# Altium footprint library Seeed-OPL-ic.PCBLIB: 95 footprints (part 3 of 6)
Each footprint in its own frame and in the unit in brackets; x right, y up, seen from the top. Pads: shape width x height; smd on the part's side, far side on the other; paste and mask are expansions set on the pad; w line width, h text height; cw(c..) or ccw(c..) is an arc to the next point about the centre after c.
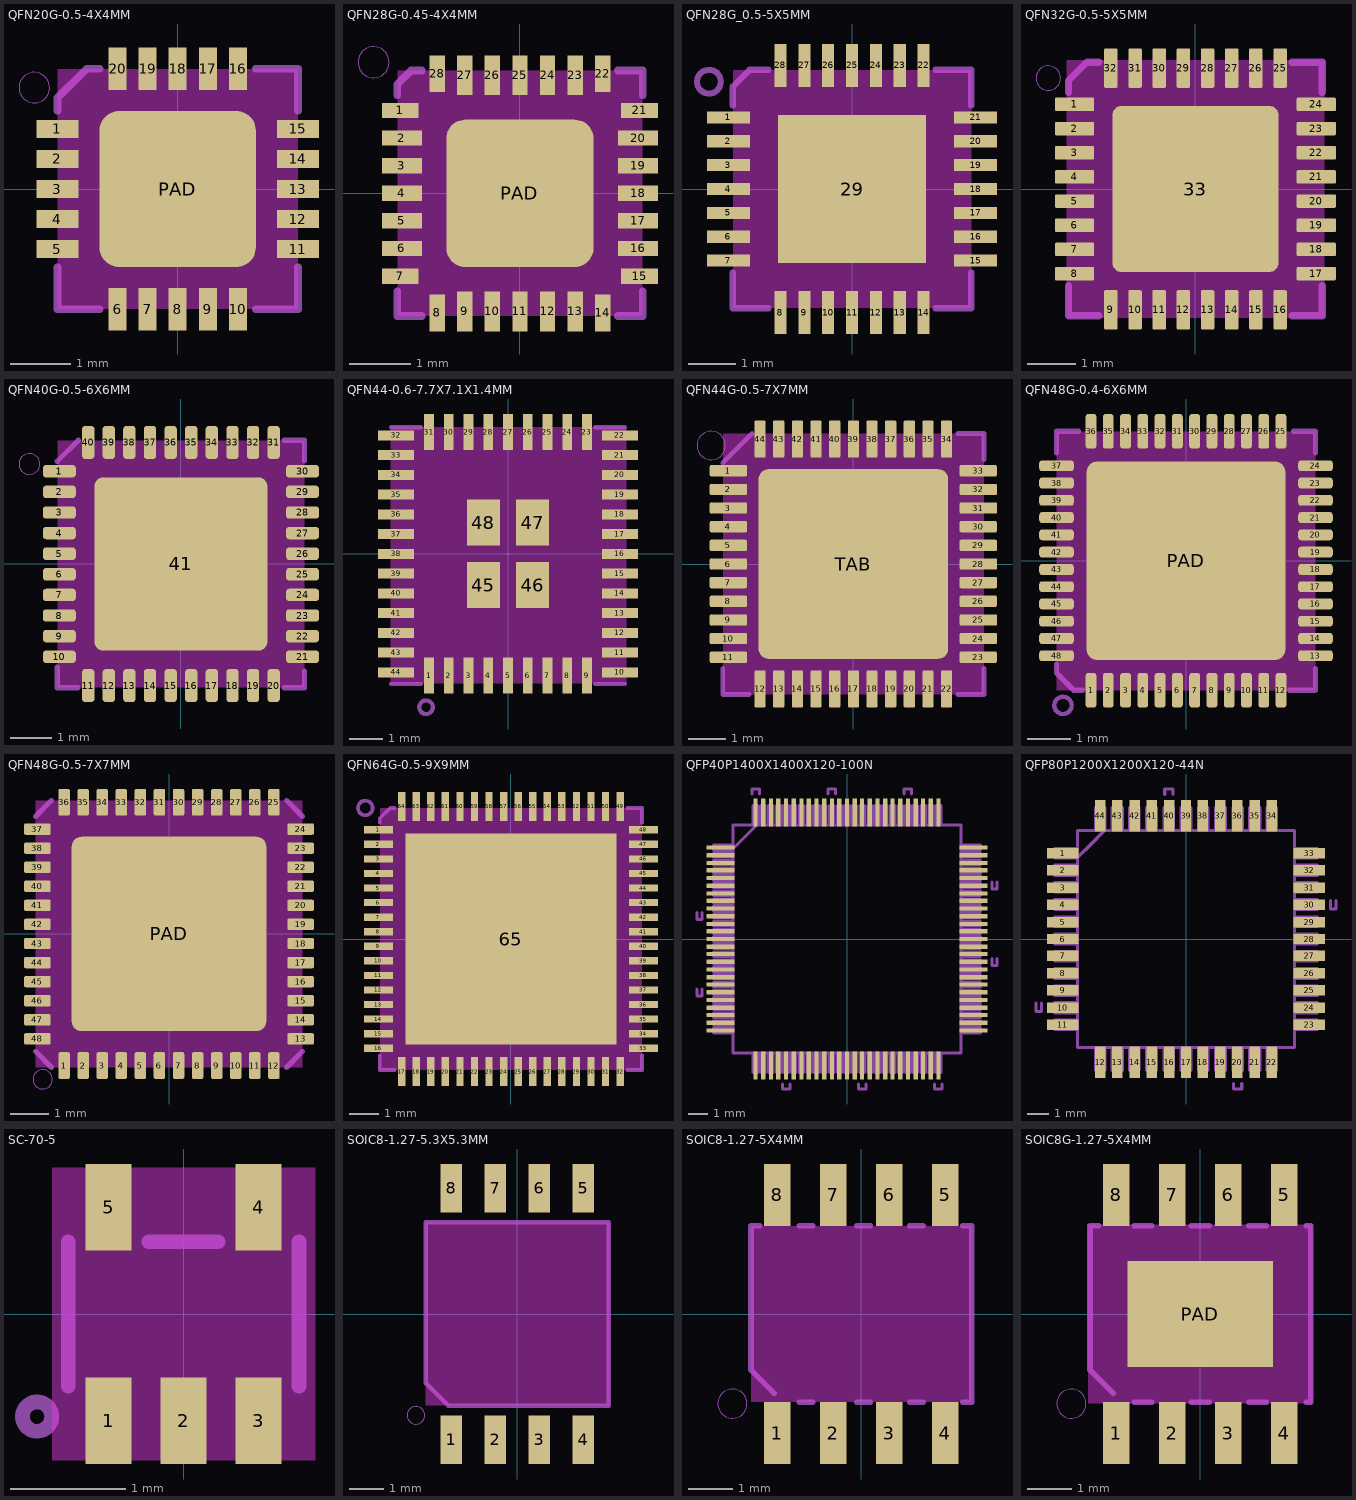
[diagram p2: the footprints below, top view; thin cyan lines are the x and y axes]

## QFN20G-0.5-4X4MM [mm]
pads (21):
  rect 0.7x0.3 smd: 1(-2,1) 2(-2,0.5) 3(-2,0) 4(-2,-0.5) 5(-2,-1) 11(2,-1) 12(2,-0.5) 13(2,0) 14(2,0.5) 15(2,1)
  rect 0.3x0.7 smd: 6(-1,-2) 7(-0.5,-2) 8(0,-2) 9(0.5,-2) 10(1,-2) 16(1,2) 17(0.5,2) 18(0,2) 19(-0.5,2) 20(-1,2)
  rrect25% 2.6x2.6 smd: PAD(0,0)
Keep-Out Layer:
  rectangle: -2,-2 2,2
Mechanical 2:
  circle w0: c-2.386,1.686 r0.254
  lines w0.127: -2,-1.3 -2,-2 -1.3,-2 ; -2,1.3 -2,1.5 ; -2,1.515 -1.515,2 ; -1.5,2 -1.3,2 ; 1.3,-2 2,-2 2,-1.3 ; 1.3,2 2,2 2,1.3
Mechanical 18:
  lines w0.127: -2,-1.3 -2,-2 -1.3,-2 ; -2,1.3 -2,1.5 ; -1.5,2 -1.3,2 ; 1.3,-2 2,-2 2,-1.3 ; 1.3,2 2,2 2,1.3

## QFN28G-0.45-4X4MM [mm]
pads (29):
  rect 0.6x0.25 smd: 1(-1.95,1.35) 7(-1.95,-1.35) 15(1.95,-1.35) 21(1.95,1.35)
  rect 0.65x0.25 smd: 2(-1.925,0.9) 3(-1.925,0.45) 4(-1.925,0) 5(-1.925,-0.45) 6(-1.925,-0.9) 16(1.925,-0.9) 17(1.925,-0.45) 18(1.925,0) 19(1.925,0.45) 20(1.925,0.9)
  rect 0.25x0.6 smd: 8(-1.35,-1.95) 14(1.35,-1.95) 22(1.35,1.95) 28(-1.35,1.95)
  rect 0.25x0.65 smd: 9(-0.9,-1.925) 10(-0.45,-1.925) 11(0,-1.925) 12(0.45,-1.925) 13(0.9,-1.925) 23(0.9,1.925) 24(0.45,1.925) 25(0,1.925) 26(-0.45,1.925) 27(-0.9,1.925)
  rrect25% 2.4x2.4 smd: PAD(0,0)
Keep-Out Layer:
  rectangle: -2,-2 2,2
Mechanical 2:
  circle w0: c-2.386,2.136 r0.254
  lines w0.127: -2,-1.6 -2,-2 -1.6,-2 ; -2,1.6 -2,1.776 -1.776,2 -1.6,2 ; 1.6,-2 2,-2 2,-1.6 ; 1.6,2 2,2 2,1.6

## QFN28G_0.5-5X5MM [mil]
pads (29):
  rect 35.43x10 smd: 1(-101.97,59.06) 2(-101.97,39.37) 3(-101.97,19.69) 4(-101.97,0) 5(-101.97,-19.69) 6(-101.97,-39.37) 7(-101.97,-59.06) 15(101.97,-59.06) 16(101.97,-39.37) 17(101.97,-19.69) 18(101.97,0) 19(101.97,19.69) 20(101.97,39.37) 21(101.97,59.06)
  rect 10x35.43 smd: 8(-59.06,-101.97) 9(-39.37,-101.97) 10(-19.69,-101.97) 11(0,-101.97) 12(19.69,-101.97) 13(39.37,-101.97) 14(59.06,-101.97) 22(59.06,101.97) 23(39.37,101.97) 24(19.69,101.97) 25(0,101.97) 26(-19.69,101.97) 27(-39.37,101.97) 28(-59.06,101.97)
  rect 122.05x122.05 smd paste-61.02: 29(0,0)
Top Paste:
  rectangle: -59.06,9.84 -9.84,59.06
  rectangle: 9.84,9.84 59.06,59.06
  rectangle: -59.06,-59.06 -9.84,-9.84
  rectangle: 9.84,-59.06 59.06,-9.84
Keep-Out Layer:
  rectangle: -98.43,-98.43 98.43,98.43
Mechanical 2:
  circle w5: c-118.11,88.58 r9.84
  lines w5: -98.43,-68.9 -98.43,-98.43 -68.9,-98.43 ; -98.43,68.9 -98.43,84.51 -84.51,98.43 -68.9,98.43 ; 68.9,-98.43 98.43,-98.43 98.43,-68.9 ; 68.9,98.43 98.43,98.43 98.43,68.9

## QFN32G-0.5-5X5MM [mil]
pads (33):
  rrect20% 32x11 smd: 1(-98.43,68.9) 2(-98.43,49.21) 3(-98.43,29.53) 4(-98.43,9.84) 5(-98.43,-9.84) 6(-98.43,-29.53) 7(-98.43,-49.21) 8(-98.43,-68.9) 17(98.43,-68.9) 18(98.43,-49.21) 19(98.43,-29.53) 20(98.43,-9.84) 21(98.43,9.84) 22(98.43,29.53) 23(98.43,49.21) 24(98.43,68.9)
  rrect20% 11x32 smd: 9(-68.9,-98.43) 10(-49.21,-98.43) 11(-29.53,-98.43) 12(-9.84,-98.43) 13(9.84,-98.43) 14(29.53,-98.43) 15(49.21,-98.43) 16(68.9,-98.43) 25(68.9,98.43) 26(49.21,98.43) 27(29.53,98.43) 28(9.84,98.43) 29(-9.84,98.43) 30(-29.53,98.43) 31(-49.21,98.43) 32(-68.9,98.43)
  rrect10% 135x135 smd paste-67.5: 33(0,0)
Top Paste:
  circle w0: c0,0 r15
  circle w0: c-40,40 r15
  circle w0: c-40,-40 r15
  circle w0: c40,-40 r15
  circle w0: c40,40 r15
Keep-Out Layer:
  rectangle: -105,-105 105,105
Mechanical 2:
  circle w0: c-119.84,90.32 r10
  lines w6: -103.35,-78.74 -103.35,-103.35 -78.74,-103.35 ; -103.35,78.74 -103.35,88.35 -88.35,103.35 -78.74,103.35 ; 78.74,-103.35 103.35,-103.35 103.35,-78.74 ; 78.74,103.35 103.35,103.35 103.35,78.74

## QFN40G-0.5-6X6MM [mil]
pads (41):
  rrect50% 31.5x11.81 smd: 1(-116.14,88.58) 2(-116.14,68.9) 3(-116.14,49.21) 4(-116.14,29.53) 5(-116.14,9.84) 6(-116.14,-9.84) 7(-116.14,-29.53) 8(-116.14,-49.21) 9(-116.14,-68.9) 10(-116.14,-88.58) 21(116.14,-88.58) 22(116.14,-68.9) 23(116.14,-49.21) 24(116.14,-29.53) 25(116.14,-9.84) 26(116.14,9.84) 27(116.14,29.53) 28(116.14,49.21) 29(116.14,68.9) 30(116.14,88.58)
  rrect50% 11.81x31.5 smd: 11(-88.58,-116.14) 12(-68.9,-116.14) 13(-49.21,-116.14) 14(-29.53,-116.14) 15(-9.84,-116.14) 16(9.84,-116.14) 17(29.53,-116.14) 18(49.21,-116.14) 19(68.9,-116.14) 20(88.58,-116.14) 31(88.58,116.14) 32(68.9,116.14) 33(49.21,116.14) 34(29.53,116.14) 35(9.84,116.14) 36(-9.84,116.14) 37(-29.53,116.14) 38(-49.21,116.14) 39(-68.9,116.14) 40(-88.58,116.14)
  rrect10% 165.35x165.35 smd: 41(0,0)
Keep-Out Layer:
  rectangle: -118.11,-118.11 118.11,118.11
Mechanical 2:
  circle w0: c-144.69,95.47 r10
  lines w5: -118.11,98.11 -98.11,118.11
Mechanical 18:
  lines w5: -118.11,-98.43 -118.11,-118.11 -98.43,-118.11 ; 98.43,-118.11 118.11,-118.11 118.11,-102.36 ; 98.43,118.11 118.11,118.11 118.11,98.43

## QFN44-0.6-7.7X7.1X1.4MM [mm]
pads (48):
  rect 0.3x1.1 smd: 1(-2.4,-3.7) 2(-1.8,-3.7) 3(-1.2,-3.7) 4(-0.6,-3.7) 5(0,-3.7) 6(0.6,-3.7) 7(1.2,-3.7) 8(1.8,-3.7) 9(2.4,-3.7) 23(2.4,3.7) 24(1.8,3.7) 25(1.2,3.7) 26(0.6,3.7) 27(0,3.7) 28(-0.6,3.7) 29(-1.2,3.7) 30(-1.8,3.7) 31(-2.4,3.7)
  rect 1.1x0.3 smd: 10(3.4,-3.6) 11(3.4,-3) 12(3.4,-2.4) 13(3.4,-1.8) 14(3.4,-1.2) 15(3.4,-0.6) 16(3.4,0) 17(3.4,0.6) 18(3.4,1.2) 19(3.4,1.8) 20(3.4,2.4) 21(3.4,3) 22(3.4,3.6) 32(-3.4,3.6) 33(-3.4,3) 34(-3.4,2.4) 35(-3.4,1.8) 36(-3.4,1.2) 37(-3.4,0.6) 38(-3.4,0) 39(-3.4,-0.6) 40(-3.4,-1.2) 41(-3.4,-1.8) 42(-3.4,-2.4) 43(-3.4,-3) 44(-3.4,-3.6)
  rect 1x1.4 smd: 45(-0.75,-0.95) 46(0.75,-0.95) 47(0.75,0.95) 48(-0.75,0.95)
Keep-Out Layer:
  rectangle: -3.57,-3.94 3.6,3.86
Mechanical 2:
  circle w0.127: c-2.49,-4.66 r0.206
  lines w0.127: -3.55,-3.95 -2.65,-3.95 ; -3.55,3.85 -2.65,3.85 ; 2.65,-3.95 3.55,-3.95 ; 2.65,3.85 3.55,3.85

## QFN44G-0.5-7X7MM [mm]
pads (45):
  rrect25% 1x0.3 smd: 1(-3.35,2.5) 2(-3.35,2) 3(-3.35,1.5) 4(-3.35,1) 5(-3.35,0.5) 6(-3.35,0) 7(-3.35,-0.5) 8(-3.35,-1) 9(-3.35,-1.5) 10(-3.35,-2) 11(-3.35,-2.5) 23(3.35,-2.5) 24(3.35,-2) 25(3.35,-1.5) 26(3.35,-1) 27(3.35,-0.5) 28(3.35,0) 29(3.35,0.5) 30(3.35,1) 31(3.35,1.5) 32(3.35,2) 33(3.35,2.5)
  rrect25% 0.3x1 smd: 12(-2.5,-3.35) 13(-2,-3.35) 14(-1.5,-3.35) 15(-1,-3.35) 16(-0.5,-3.35) 17(0,-3.35) 18(0.5,-3.35) 19(1,-3.35) 20(1.5,-3.35) 21(2,-3.35) 22(2.5,-3.35) 34(2.5,3.35) 35(2,3.35) 36(1.5,3.35) 37(1,3.35) 38(0.5,3.35) 39(0,3.35) 40(-0.5,3.35) 41(-1,3.35) 42(-1.5,3.35) 43(-2,3.35) 44(-2.5,3.35)
  rrect10% 5.08x5.08 smd: TAB(0,0)
Keep-Out Layer:
  rectangle: -3.5,-3.5 3.5,3.5
Mechanical 2:
  circle w0: c-3.81,3.175 r0.381
  lines w0.127: -3.5,-2.8 -3.5,-3.5 -2.8,-3.5 ; -3.5,2.709 -2.709,3.5 ; 2.8,-3.5 3.5,-3.5 3.5,-2.8 ; 2.8,3.5 3.5,3.5 3.5,2.8

## QFN48G-0.4-6X6MM [mm]
pads (49):
  rrect50% 0.25x0.8 smd: 1(-2.2,-3) 2(-1.8,-3) 3(-1.4,-3) 4(-1,-3) 5(-0.6,-3) 6(-0.2,-3) 7(0.2,-3) 8(0.6,-3) 9(1,-3) 10(1.4,-3) 11(1.8,-3) 12(2.2,-3) 25(2.2,3) 26(1.8,3) 27(1.4,3) 28(1,3) 29(0.6,3) 30(0.2,3) 31(-0.2,3) 32(-0.6,3) 33(-1,3) 34(-1.4,3) 35(-1.8,3) 36(-2.2,3)
  rrect50% 0.8x0.25 smd: 13(3,-2.2) 14(3,-1.8) 15(3,-1.4) 16(3,-1) 17(3,-0.6) 18(3,-0.2) 19(3,0.2) 20(3,0.6) 21(3,1) 22(3,1.4) 23(3,1.8) 24(3,2.2) 37(-3,2.2) 38(-3,1.8) 39(-3,1.4) 40(-3,1) 41(-3,0.6) 42(-3,0.2) 43(-3,-0.2) 44(-3,-0.6) 45(-3,-1) 46(-3,-1.4) 47(-3,-1.8) 48(-3,-2.2)
  rrect10% 4.6x4.6 smd: PAD(0,0)
Keep-Out Layer:
  rectangle: -3,-3 3,3
Mechanical 2:
  circle w0.1: c-2.85,-3.35 r0.2
  lines w0.127: -3,-2.4 -3,-2.6 -2.6,-3 -2.4,-3 ; -3,2.5 -3,3 -2.5,3 ; 2.4,-3 3,-3 3,-2.5 ; 2.5,3 3,3 3,2.5

## QFN48G-0.5-7X7MM [mm]
pads (49):
  rrect30% 0.3x0.7 smd: 1(-2.75,-3.45) 2(-2.25,-3.45) 3(-1.75,-3.45) 4(-1.25,-3.45) 5(-0.75,-3.45) 6(-0.25,-3.45) 7(0.25,-3.45) 8(0.75,-3.45) 9(1.25,-3.45) 10(1.75,-3.45) 11(2.25,-3.45) 12(2.75,-3.45) 25(2.75,3.45) 26(2.25,3.45) 27(1.75,3.45) 28(1.25,3.45) 29(0.75,3.45) 30(0.25,3.45) 31(-0.25,3.45) 32(-0.75,3.45) 33(-1.25,3.45) 34(-1.75,3.45) 35(-2.25,3.45) 36(-2.75,3.45)
  rrect30% 0.7x0.3 smd: 13(3.45,-2.75) 14(3.45,-2.25) 15(3.45,-1.75) 16(3.45,-1.25) 17(3.45,-0.75) 18(3.45,-0.25) 19(3.45,0.25) 20(3.45,0.75) 21(3.45,1.25) 22(3.45,1.75) 23(3.45,2.25) 24(3.45,2.75) 37(-3.45,2.75) 38(-3.45,2.25) 39(-3.45,1.75) 40(-3.45,1.25) 41(-3.45,0.75) 42(-3.45,0.25) 43(-3.45,-0.25) 44(-3.45,-0.75) 45(-3.45,-1.25) 46(-3.45,-1.75) 47(-3.45,-2.25) 48(-3.45,-2.75)
  rrect10% 5.1x5.1 smd: PAD(0,0)
Keep-Out Layer:
  rectangle: -3.5,-3.5 3.5,3.5
Mechanical 2:
  circle w0: c-3.31,-3.81 r0.254
  lines w0.127: -3.5,-3.08 -3.08,-3.5 ; -3.5,3.08 -3.08,3.5 ; 3.08,-3.5 3.5,-3.08 ; 3.08,3.5 3.5,3.08

## QFN64G-0.5-9X9MM [mm]
pads (65):
  rect 1x0.25 smd: 1(-4.55,3.75) 2(-4.55,3.25) 3(-4.55,2.75) 4(-4.55,2.25) 5(-4.55,1.75) 6(-4.55,1.25) 7(-4.55,0.75) 8(-4.55,0.25) 9(-4.55,-0.25) 10(-4.55,-0.75) 11(-4.55,-1.25) 12(-4.55,-1.75) 13(-4.55,-2.25) 14(-4.55,-2.75) 15(-4.55,-3.25) 16(-4.55,-3.75) 33(4.55,-3.75) 34(4.55,-3.25) 35(4.55,-2.75) 36(4.55,-2.25) 37(4.55,-1.75) 38(4.55,-1.25) 39(4.55,-0.75) 40(4.55,-0.25) 41(4.55,0.25) 42(4.55,0.75) 43(4.55,1.25) 44(4.55,1.75) 45(4.55,2.25) 46(4.55,2.75) 47(4.55,3.25) 48(4.55,3.75)
  rect 0.25x1 smd: 17(-3.75,-4.55) 18(-3.25,-4.55) 19(-2.75,-4.55) 20(-2.25,-4.55) 21(-1.75,-4.55) 22(-1.25,-4.55) 23(-0.75,-4.55) 24(-0.25,-4.55) 25(0.25,-4.55) 26(0.75,-4.55) 27(1.25,-4.55) 28(1.75,-4.55) 29(2.25,-4.55) 30(2.75,-4.55) 31(3.25,-4.55) 32(3.75,-4.55) 49(3.75,4.55) 50(3.25,4.55) 51(2.75,4.55) 52(2.25,4.55) 53(1.75,4.55) 54(1.25,4.55) 55(0.75,4.55) 56(0.25,4.55) 57(-0.25,4.55) 58(-0.75,4.55) 59(-1.25,4.55) 60(-1.75,4.55) 61(-2.25,4.55) 62(-2.75,4.55) 63(-3.25,4.55) 64(-3.75,4.55)
  rect 7.25x7.25 smd paste-3.625: 65(0,0)
Top Paste:
  rectangle: 0.25,0.25 3.5,3.5
  rectangle: -3.5,0.25 -0.25,3.5
  rectangle: -3.5,-3.5 -0.25,-0.25
  rectangle: 0.25,-3.5 3.5,-0.25
Keep-Out Layer:
  rectangle: -4.5,-4.5 4.5,4.5
Mechanical 2:
  circle w0.127: c-5,4.5 r0.25
  lines w0.127: -4.5,-4 -4.5,-4.5 -4,-4.5 ; -4.5,4 -4.5,4.147 -4.147,4.5 -4,4.5 ; 4,-4.5 4.5,-4.5 4.5,-4 ; 4,4.5 4.5,4.5 4.5,4

## QFP40P1400X1400X120-100N [mil]
pads (100):
  rect 58x9 smd: 1(-261,189) 2(-261,173) 3(-261,157) 4(-261,142) 5(-261,126) 6(-261,110) 7(-261,94) 8(-261,79) 9(-261,63) 10(-261,47) 11(-261,31) 12(-261,16) 13(-261,0) 14(-261,-16) 15(-261,-31) 16(-261,-47) 17(-261,-63) 18(-261,-79) 19(-261,-94) 20(-261,-110) 21(-261,-126) 22(-261,-142) 23(-261,-157) 24(-261,-173) 25(-261,-189) 51(261,-189) 52(261,-173) 53(261,-157) 54(261,-142) 55(261,-126) 56(261,-110) 57(261,-94) 58(261,-79) 59(261,-63) 60(261,-47) 61(261,-31) 62(261,-16) 63(261,0) 64(261,16) 65(261,31) 66(261,47) 67(261,63) 68(261,79) 69(261,94) 70(261,110) 71(261,126) 72(261,142) 73(261,157) 74(261,173) 75(261,189)
  rect 9x58 smd: 26(-189,-261) 27(-173,-261) 28(-157,-261) 29(-142,-261) 30(-126,-261) 31(-110,-261) 32(-94,-261) 33(-79,-261) 34(-63,-261) 35(-47,-261) 36(-31,-261) 37(-16,-261) 38(0,-261) 39(16,-261) 40(31,-261) 41(47,-261) 42(63,-261) 43(79,-261) 44(94,-261) 45(110,-261) 46(126,-261) 47(142,-261) 48(157,-261) 49(173,-261) 50(189,-261) 76(189,261) 77(173,261) 78(157,261) 79(142,261) 80(126,261) 81(110,261) 82(94,261) 83(79,261) 84(63,261) 85(47,261) 86(31,261) 87(16,261) 88(0,261) 89(-16,261) 90(-31,261) 91(-47,261) 92(-63,261) 93(-79,261) 94(-94,261) 95(-110,261) 96(-126,261) 97(-142,261) 98(-157,261) 99(-173,261) 100(-189,261)
Mechanical 2:
  lines w6: -310,-103 -310,-118 -300,-118 -300,-103 ; -310,55 -310,40 -300,40 -300,55 ; -236,-207 -236,-236 -207,-236 ; -236,207 -236,236 -207,236 ; -221,201 -201,221 ; -196,300 -196,310 -181,310 -181,300 ; -133,-300 -133,-310 -118,-310 -118,-300 ; -39,300 -39,310 -24,310 -24,300 ; 24,-300 24,-310 39,-310 39,-300 ; 118,300 118,310 133,310 133,300 ; 181,-300 181,-310 196,-310 196,-300 ; 207,-236 236,-236 236,-207 ; 207,236 236,236 236,207 ; 300,-40 300,-55 310,-55 310,-40 ; 300,118 300,103 310,103 310,118
Mechanical 18:
  drawing of 407 lines, arcs and shapes, not listed

## QFP80P1200X1200X120-44N [mil]
pads (44):
  rect 58x19 smd: 1(-226,157) 2(-226,126) 3(-226,94) 4(-226,63) 5(-226,31) 6(-226,0) 7(-226,-31) 8(-226,-63) 9(-226,-94) 10(-226,-126) 11(-226,-157) 23(226,-157) 24(226,-126) 25(226,-94) 26(226,-63) 27(226,-31) 28(226,0) 29(226,31) 30(226,63) 31(226,94) 32(226,126) 33(226,157)
  rect 19x58 smd: 12(-157,-226) 13(-126,-226) 14(-94,-226) 15(-63,-226) 16(-31,-226) 17(0,-226) 18(31,-226) 19(63,-226) 20(94,-226) 21(126,-226) 22(157,-226) 34(157,226) 35(126,226) 36(94,226) 37(63,226) 38(31,226) 39(0,226) 40(-31,226) 41(-63,226) 42(-94,226) 43(-126,226) 44(-157,226)
Mechanical 2:
  lines w6: -275,-118 -275,-133 -265,-133 -265,-118 ; -199,-180 -199,-199 -180,-199 ; -199,180 -199,199 -180,199 ; -185,163 -163,185 ; -39,265 -39,275 -24,275 -24,265 ; 87,-265 87,-275 102,-275 102,-265 ; 180,-199 199,-199 199,-180 ; 180,199 199,199 199,180 ; 265,70 265,55 275,55 275,70
Mechanical 18:
  drawing of 181 lines, arcs and shapes, not listed

## SC-70-5 [mm]
pads (5):
  rect 0.4x0.75 smd: 1(-0.65,-0.925) 2(0,-0.925) 3(0.65,-0.925) 4(0.65,0.925) 5(-0.65,0.925)
Keep-Out Layer:
  rectangle: -1.143,-1.27 1.143,1.27
Mechanical 2:
  circle w0.127: c-1.27,-0.889 r0.127
  lines w0.127: -1,-0.625 -1,0.625 ; -0.3,0.625 0.3,0.625 ; 1,-0.625 1,0.625

## SOIC8-1.27-5.3X5.3MM [mm]
pads (8):
  rect 0.62x1.4 smd: 1(-1.905,-3.623) 2(-0.635,-3.623) 3(0.635,-3.623) 4(1.905,-3.623) 5(1.905,3.623) 6(0.635,3.623) 7(-0.635,3.623) 8(-1.905,3.623)
Keep-Out Layer:
  rectangle: -2.64,-2.64 2.64,2.64
Mechanical 2:
  circle w0: c-2.921,-2.921 r0.254
  lines w0.127: -2.64,-1.991 -1.991,-2.64 2.64,-2.64 2.64,2.64 -2.64,2.64 -2.64,-1.991

## SOIC8-1.27-5X4MM [mm]
pads (8):
  rect 0.6x1.4 smd: 1(-1.905,-2.7) 2(-0.635,-2.7) 3(0.635,-2.7) 4(1.905,-2.7) 5(1.905,2.7) 6(0.635,2.7) 7(-0.635,2.7) 8(-1.905,2.7)
Keep-Out Layer:
  rectangle: -2.5,-2 2.5,2
Mechanical 2:
  circle w0: c-2.921,-2.032 r0.33
  lines w0.127: -2.3,2 -2.5,2 -2.5,-1.269 -1.969,-1.8 ; -1.4,-2 -1.1,-2 ; -1.4,2 -1.1,2 ; -0.1,-2 0.2,-2 ; -0.1,2 0.2,2 ; 1.1,-2 1.4,-2 ; 1.1,2 1.4,2 ; 2.3,-2 2.5,-2 2.5,2 2.3,2

## SOIC8G-1.27-5X4MM [mm]
pads (9):
  rect 0.6x1.4 smd: 1(-1.905,-2.7) 2(-0.635,-2.7) 3(0.635,-2.7) 4(1.905,-2.7) 5(1.905,2.7) 6(0.635,2.7) 7(-0.635,2.7) 8(-1.905,2.7)
  rect 3.3x2.4 smd: PAD(0,0)
Keep-Out Layer:
  rectangle: -2.54,-2.032 2.54,2.032
Mechanical 2:
  circle w0: c-2.921,-2.032 r0.33
  lines w0.127: -2.3,2 -2.5,2 -2.5,-1.269 -1.969,-1.8 ; -1.5,-2 -1.1,-2 ; -1.5,2 -1.1,2 ; -0.2,-2 0.2,-2 ; -0.2,2 0.2,2 ; 1.1,-2 1.5,-2 ; 1.1,2 1.5,2 ; 2.4,-2 2.5,-2 2.5,2 2.4,2